# Altium footprint library USB-3.0-TYPE-A-TF.PcbLib: 1 footprints
Each footprint in its own frame and in the unit in brackets; x right, y up, seen from the top. Pads: shape width x height; smd on the part's side, far side on the other; paste and mask are expansions set on the pad; w line width, h text height; cw(c..) or ccw(c..) is an arc to the next point about the centre after c.
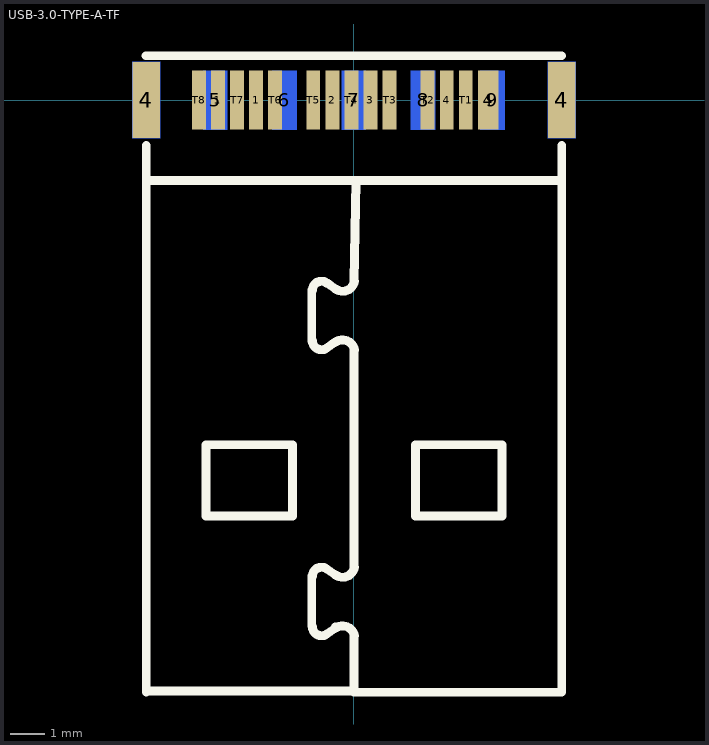
[diagram p0: the footprint, top view; thin cyan lines are the x and y axes]

## USB-3.0-TYPE-A-TF [mm]
pads (23):
  rect 0.4x1.7 smd: 1(-3.924,0) 1(-2.824,0) 2(-0.624,0) 3(0.476,0) 4(2.676,0) T1(3.226,0) T2(2.126,0) T3(1.026,0) T4(-0.074,0) T5(-1.174,0) T6(-2.274,0) T7(-3.374,0) T8(-4.474,0)
  rect 0.8x2.2 smd: 4(-5.994,0) 4(5.994,0)
  rect 0.8x2.2 smd far side: 4(-5.994,0) 4(5.994,0)
  rect 0.6x1.7 smd: 4(3.876,0)
  rect 0.7x1.7 smd far side: 5(-4.006,0) 6(-2.006,0) 7(-0.006,0) 8(1.994,0) 9(3.994,0)
Top Overlay:
  lines w0.254: -6.001,1.276 5.988,1.276 ; -5.994,-17.082 -5.994,-2.325 ; -5.994,-1.314 -5.994,-2.325 ; -5.977,-17.048 -0.008,-17.048 ; -1.219,-15.177 -1.219,-13.73 ; -1.219,-6.948 -1.219,-5.475 ; -1.199,-15.198 ccw(c-0.939,-15.195) -0.79,-15.409 ; -1.199,-13.737 cw(c-0.939,-13.737) -0.79,-13.524 ; -1.199,-6.948 ccw(c-0.939,-6.945) -0.79,-7.159 ; -1.199,-5.487 cw(c-0.939,-5.487) -0.79,-5.274 ; -0.787,-15.406 -0.533,-15.228 -0.533,-15.203 ; -0.787,-13.526 -0.533,-13.704 ; -0.787,-7.151 -0.533,-6.973 ; -0.787,-5.271 -0.533,-5.449 ; -0.526,-15.231 cw(c-0.329,-15.513) 0.01,-15.457 ; -0.526,-13.704 ccw(c-0.329,-13.422) 0.01,-13.478 ; -0.526,-6.981 cw(c-0.329,-7.263) 0.01,-7.207 ; -0.526,-5.454 ccw(c-0.329,-5.172) 0.01,-5.228 ; 0,-15.457 0,-17.082 5.994,-17.082 5.994,-2.325 ; 0,-13.476 0,-7.202 ; 0,-5.221 0.056,-2.35 ; 5.994,-1.314 5.994,-2.325 ; -5.994,-2.325 5.994,-2.325 ; -4.267,-12.002 -4.267,-9.945 -1.778,-9.945 -1.778,-12.002 -4.267,-12.002 ; 1.778,-12.002 1.778,-9.945 4.267,-9.945 4.267,-12.002 1.778,-12.002